# Altium footprint library RS485通用小板.PcbLib: 5 footprints
Each footprint in its own frame and in the unit in brackets; x right, y up, seen from the top. Pads: shape width x height; smd on the part's side, far side on the other; paste and mask are expansions set on the pad; w line width, h text height; cw(c..) or ccw(c..) is an arc to the next point about the centre after c.
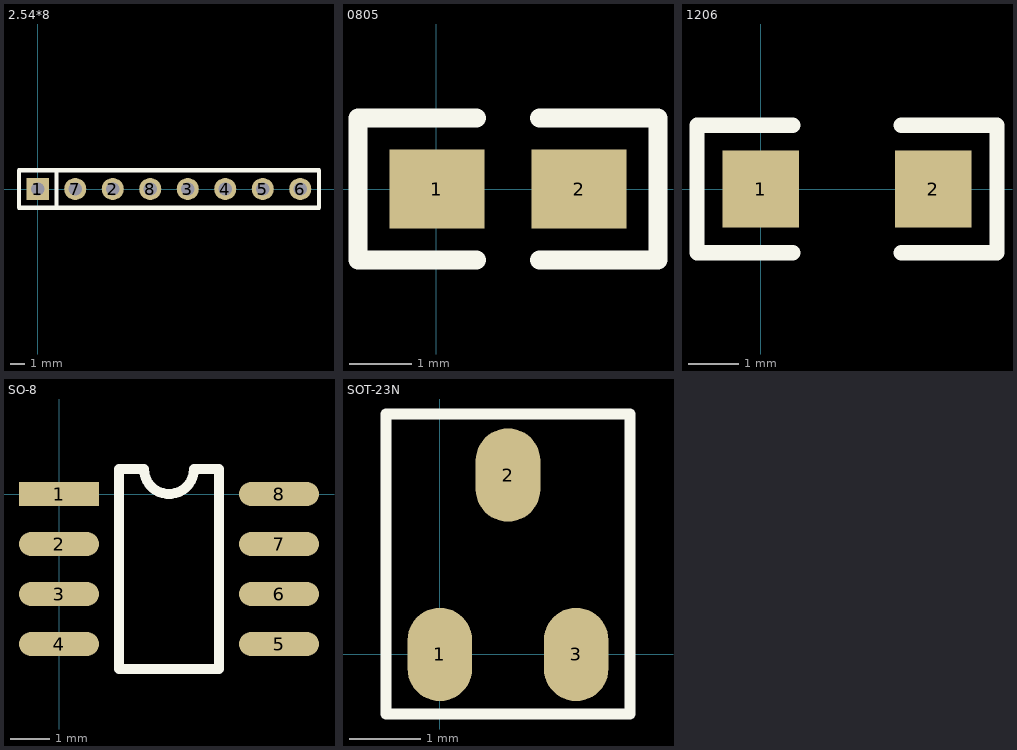
[diagram p0: the footprints below, top view; thin cyan lines are the x and y axes]

## 2.54*8 [mm]
height 10
pads (8):
  rect 1.5x1.5 hole 0.9: 1(0,0)
  round 1.5 hole 0.9: 2(5.08,0) 3(10.16,0) 4(12.7,0) 5(15.24,0) 6(17.78,0) 7(2.54,0) 8(7.62,0)
Top Overlay:
  lines w0.3: 1.27,-1.143 1.27,1.143 ; -1.27,-1.27 -1.27,1.27 19.05,1.27 19.05,-1.27 -1.27,-1.27

## 0805 [mil]
pads (2):
  rect 60x50 smd: 1(0.45,0.02) 2(90.45,0.02)
Top Overlay:
  lines w12: 25.45,-44.98 -49.55,-44.98 -49.55,45.02 25.45,45.02 ; 65.45,-44.98 140.45,-44.98 140.45,45.02 65.45,45.02

## 1206 [mil]
pads (2):
  rect 60x60 smd: 1(0,0) 2(135,0)
Top Overlay:
  lines w12: 25,-50 -50,-50 -50,50 25,50 ; 110,-50 185,-50 185,50 110,50

## SO-8 [mil]
pads (8):
  rect 80x24 smd: 1(0,0)
  oval 80x24 smd: 2(0,-50) 3(0,-100) 4(0,-150) 5(220,-150) 6(220,-100) 7(220,-50) 8(220,0)
Top Overlay:
  lines w10: 60,-175 60,25 85,25 ccw(c110,25) 135,25 160,25 160,-175 60,-175

## SOT-23N [mm]
pads (3):
  oval 0.9x1.3 smd: 1(0,0) 2(0.95,2.5) 3(1.9,0)
Top Overlay:
  lines w0.15: -0.75,-0.83 2.65,-0.83 2.65,3.35 -0.75,3.35 -0.75,-0.83